# EAGLE library part STEPGEN-0 (library hal-config)
STEPGEN - Mode 0 = Step/Dir NAME stepgen − software step pulse generation SYNOPSIS loadrt stepgen step_type=type0[,type1...] [ctrl_type=type0[,type1...]] [user_step_type=#,#...] DESCRIPTION stepgen is used to control stepper motors. The maximum step rate depends on the CPU and other factors, and is usually in the range of 5KHz to 25KHz. If higher rates are needed, a hardware step generator is a better choice. stepgen has two control modes, which can be selected on a channel by channel basis using ctrl_type. Possible values are "p" for position control, and "v" for velocity control. The default is position control, which drives the motor to a commanded position, subject to acceleration and velocity limits. Velocity control drives the motor at a commanded speed, again subject to accel and velocity limits. Usually, position mode is used for machine axes. Velocity mode is reserved for unusual applications where continuous movement at some speed is desired, instead of movement to a specific position. (Note that velocity mode replaces the former component freqgen.) stepgen can control a maximum of eight motors. The number of motors/channels actually loaded depends on the number of type values given. The value of each type determines the outputs for that channel. Position or velocity mode can be individually selected for each channel. Both control modes support the same 16 possible step types. By far the most common step type is ’0’, standard step and direction. Others include up/down, quadrature, and a wide variety of three, four, and five phase patterns that can be used to directly control some types of motor windings. (When used with appropriate buffers of course.) Some of the stepping types are described below, but for more details (including timing diagrams) see the stepgen section of the HAL reference manual. type 0: step/dir Two pins, one for step and one for direction. make-pulses must run at least twice for each step (once to set the step pin true, once to clear it). This limits the maximum step rate to half (or less) of the rate that can be reached by types 2-14. The parameters steplen and stepspace can further lower the maximum step rate. Parameters dirsetup and dirhold also apply to this step type. type 1: up/down Two pins, one for ’step up’ and one for ’step down’. Like type 0, make-pulses must run twice per step, which limits the maximum speed. type 2: quadrature Two pins, phase-A and phase-B. For forward motion, A leads B. Can advance by one step every time make-pulses runs. type 3: three phase, full step Three pins, phase-A, phase-B, and phase-C. Three steps per full cycle, then repeats. Only one phase is high at a time - for forward motion the pattern is A, then B, then C, then A again. type 4: three phase, half step Three pins, phases A through C. Six steps per full cycle. First A is high alone, then A and B together, then B alone, then B and C together, etc. types 5 through 8: four phase, full step Four pins, phases A through D. Four steps per full cycle. Types 5 and 6 are suitable for use with unipolar steppers, where power is applied to the center tap of each winding, and four open-collector transistors drive the ends. Types 7 and 8 are suitable for bipolar steppers, driven by two H-bridges. types 9 and 10: four phase, half step Four pins, phases A through D. Eight steps per full cycle. Type 9 is suitable for unipolar drive, and type 10 for bipolar drive. types 11 and 12: five phase, full step Five pins, phases A through E. Five steps per full cycle. See HAL reference manual for the patterns. types 13 and 14: five phase, half step Five pins, phases A through E. Ten steps per full cycle. See HAL reference manual for the patterns. type 15: user-specified This uses the waveform specified by the user_step_type module parameter, which may have up to 10 steps and 5 phases. FUNCTIONS stepgen.make-pulses (no floating-point) Generates the step pulses, using information computed by update-freq. Must be called as frequently as possible, to maximize the attainable step rate and minimize jitter. Operates on all channels at once. stepgen.capture-position (uses floating point) Captures position feedback value from the high speed code and makes it available on a pin for use elsewhere in the system. Operates on all channels at once. stepgen.update-freq (uses floating point) Accepts a velocity or position command and converts it into a form usable by make-pulses for step generation. Operates on all channels at once. PINS stepgen.N.counts s32 out The current position, in counts, for channel N. Updated by capture-position. stepgen.N.position-fb float out The current position, in length units (see parameter position-scale). Updated by capture-position. The resolution of position-fb is much finer than a single step. If you need to see individual steps, use counts. stepgen.N.enable bit in Enables output steps - when false, no steps are generated. stepgen.N.velocity-cmd float in (velocity mode only) Commanded velocity, in length units per second (see parameter position-scale). stepgen.N.position-cmd float in (position mode only) Commanded position, in length units (see parameter position-scale). stepgen.N.step bit out (step type 0 only) Step pulse output. stepgen.N.dir bit out (step type 0 only) Direction output: low for forward, high for reverse. stepgen.N.up bit out (step type 1 only) Count up output, pulses for forward steps. stepgen.N.down bit out (step type 1 only) Count down output, pulses for reverse steps. stepgen.N.phase-A thru phase-E bit out (step types 2-14 only) Output bits. phase-A and phase-B are present for step types 2-14, phase-C for types 3-14, phase-D for types 5-14, and phase-E for types 11-14. Behavior depends on selected stepping type. PARAMETERS stepgen.N.frequency float ro The current step rate, in steps per second, for channel N. stepgen.N.maxaccel float rw The acceleration/deceleration limit, in length units per second squared. stepgen.N.maxvel float rw The maximum allowable velocity, in length units per second. If the requested maximum velocity cannot be reached with the current combination of scaling and make-pulses thread period, it will be reset to the highest attainable value. stepgen.N.position-scale float rw The scaling for position feedback, position command, and velocity command, in steps per length unit. stepgen.N.rawcounts s32 ro The position in counts, as updated by make-pulses. (Note: this is updated more frequently than the counts pin.) stepgen.N.steplen u32 rw The length of the step pulses, in nanoseconds. Measured from rising edge to falling edge. stepgen.N.stepspace u32 rw (step types 0 and 1 only) The minimum space between step pulses, in nanoseconds. Measured from falling edge to rising edge. The actual time depends on the step rate and can be much longer. If stepspace is 0, then step can be asserted every period. This can be used in conjunction with hal_parport’s auto-resetting pins to output one step pulse per period. In this mode, steplen must be set for one period or less. stepgen.N.dirsetup u32 rw (step type 0 only) The minimum setup time from direction to step, in nanoseconds periods. Measured from change of direction to rising edge of step. stepgen.N.dirhold u32 rw (step type 0 only) The minimum hold time of direction after step, in nanoseconds. Measured from falling edge of step to change of direction. stepgen.N.dirdelay u32 rw (step types 1 and higher only) The minimum time between a forward step and a reverse step, in nanoseconds. TIMING There are five timing parameters which control the output waveform. No step type uses all five, and only those which will be used are exported to HAL. The values of these parameters are in nano-seconds, so no recalculation is needed when changing thread periods. In the timing diagrams that follow, they are identfied by the following numbers: (1) stepgen.n.steplen (2) stepgen.n.stepspace (3) stepgen.n.dirhold (4) stepgen.n.dirsetup (5) stepgen.n.dirdelay For step type 0, timing parameters 1 thru 4 are used. The following timing diagram shows the output waveforms, and what each parameter adjusts. _____ _____ _____ STEP ____/ \_______/ \_____________/ \______ | | | | | | Time |-(1)-|--(2)--|-(1)-|--(3)--|-(4)-|-(1)-| |__________________ DIR ________________________________/ For step type 1, timing parameters 1, 2, and 5 are used. The following timing diagram shows the output waveforms, and what each parameter adjusts. _____ _____ UP __/ \_____/ \________________________________ | | | | | Time |-(1)-|-(2)-|-(1)-|---(5)---|-(1)-|-(2)-|-(1)-| |_____| |_____| DOWN ______________________________/ \_____/ \____ For step types 2 and higher, the exact pattern of the outputs depends on the step type (see the HAL manual for a full listing). The outputs change from one state to another at a minimum interval of steplen. When a direction change occurs, the minimum time between the last step in one direction and the first in the other direction is the sum of steplen and dirdelay.
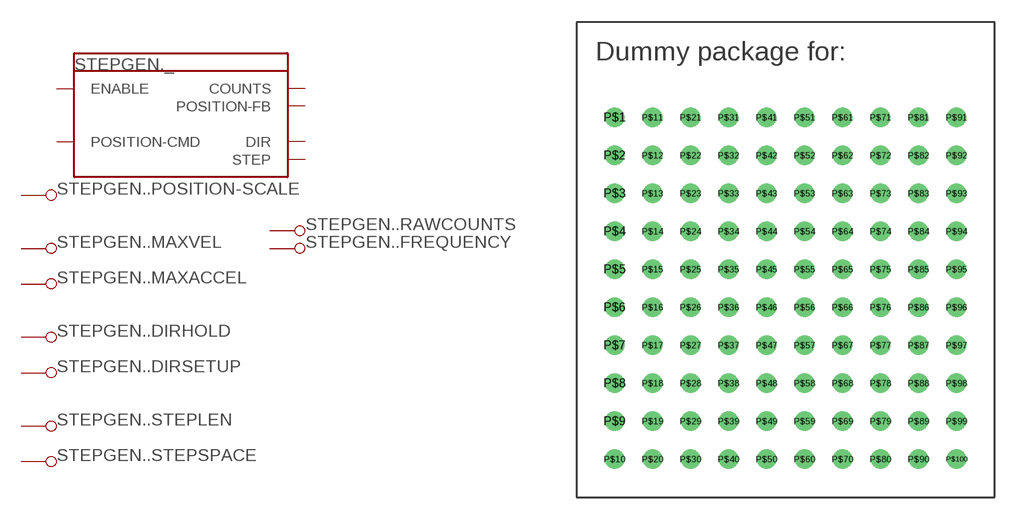
[diagram p24: symbol with the pads of DUMMY; footprint DUMMY]

Designator prefix STEPGEN.; gates .POSITION-SCALE=PIN_PARAMETER .MAXVEL=PIN_PARAMETER .MAXACCEL=PIN_PARAMETER .FREQUENCY=PIN_PARAMETER .RAWCOUNTS=PIN_PARAMETER .STEPLEN=PIN_PARAMETER .STEPSPACE=PIN_PARAMETER .DIRSETUP=PIN_PARAMETER .DIRHOLD=PIN_PARAMETER _=STEPGEN-0

## STEPGEN-0  [DUMMY]
P$2  .DIRHOLD:PIN_PARAMETER
P$3  .DIRSETUP:PIN_PARAMETER
P$4  .FREQUENCY:PIN_PARAMETER
P$5  .MAXACCEL:PIN_PARAMETER
P$6  .MAXVEL:PIN_PARAMETER
P$7  .POSITION-SCALE:PIN_PARAMETER
P$8  .RAWCOUNTS:PIN_PARAMETER
P$9  .STEPLEN:PIN_PARAMETER
P$10  .STEPSPACE:PIN_PARAMETER
P$13  _:COUNTS  out
P$14  _:DIR  out
P$15  _:ENABLE  in
P$16  _:POSITION-CMD  in
P$17  _:POSITION-FB  out
P$18  _:STEP  out

## Footprint DUMMY (pad centres in mm)
drill 0.8: P$1 0,-1.27; P$2 0,-3.81; P$3 0,-6.35; P$4 0,-8.89; P$5 0,-11.43; P$6 0,-13.97; P$7 0,-16.51; P$8 0,-19.05; P$9 0,-21.59; P$10 0,-24.13; P$11 2.54,-1.27; P$12 2.54,-3.81; P$13 2.54,-6.35; P$14 2.54,-8.89; P$15 2.54,-11.43; P$16 2.54,-13.97; P$17 2.54,-16.51; P$18 2.54,-19.05; P$19 2.54,-21.59; P$20 2.54,-24.13; P$21 5.08,-1.27; P$22 5.08,-3.81; P$23 5.08,-6.35; P$24 5.08,-8.89; P$25 5.08,-11.43; P$26 5.08,-13.97; P$27 5.08,-16.51; P$28 5.08,-19.05; P$29 5.08,-21.59; P$30 5.08,-24.13; P$31 7.62,-1.27; P$32 7.62,-3.81; P$33 7.62,-6.35; P$34 7.62,-8.89; P$35 7.62,-11.43; P$36 7.62,-13.97; P$37 7.62,-16.51; P$38 7.62,-19.05; P$39 7.62,-21.59; P$40 7.62,-24.13; P$41 10.16,-1.27; P$42 10.16,-3.81; P$43 10.16,-6.35; P$44 10.16,-8.89; P$45 10.16,-11.43; P$46 10.16,-13.97; P$47 10.16,-16.51; P$48 10.16,-19.05; P$49 10.16,-21.59; P$50 10.16,-24.13; P$51 12.7,-1.27; P$52 12.7,-3.81; P$53 12.7,-6.35; P$54 12.7,-8.89; P$55 12.7,-11.43; P$56 12.7,-13.97; P$57 12.7,-16.51; P$58 12.7,-19.05; P$59 12.7,-21.59; P$60 12.7,-24.13; P$61 15.24,-1.27; P$62 15.24,-3.81; P$63 15.24,-6.35; P$64 15.24,-8.89; P$65 15.24,-11.43; P$66 15.24,-13.97; P$67 15.24,-16.51; P$68 15.24,-19.05; P$69 15.24,-21.59; P$70 15.24,-24.13; P$71 17.78,-1.27; P$72 17.78,-3.81; P$73 17.78,-6.35; P$74 17.78,-8.89; P$75 17.78,-11.43; P$76 17.78,-13.97; P$77 17.78,-16.51; P$78 17.78,-19.05; P$79 17.78,-21.59; P$80 17.78,-24.13; P$81 20.32,-1.27; P$82 20.32,-3.81; P$83 20.32,-6.35; P$84 20.32,-8.89; P$85 20.32,-11.43; P$86 20.32,-13.97; P$87 20.32,-16.51; P$88 20.32,-19.05; P$89 20.32,-21.59; P$90 20.32,-24.13; P$91 22.86,-1.27; P$92 22.86,-3.81; P$93 22.86,-6.35; P$94 22.86,-8.89; P$95 22.86,-11.43; P$96 22.86,-13.97; P$97 22.86,-16.51; P$98 22.86,-19.05; P$99 22.86,-21.59; P$100 22.86,-24.13